# Altium footprint library SamacSys.PcbLib: 2 footprints
Each footprint in its own frame and in the unit in brackets; x right, y up, seen from the top. Pads: shape width x height; smd on the part's side, far side on the other; paste and mask are expansions set on the pad; w line width, h text height; cw(c..) or ccw(c..) is an arc to the next point about the centre after c.
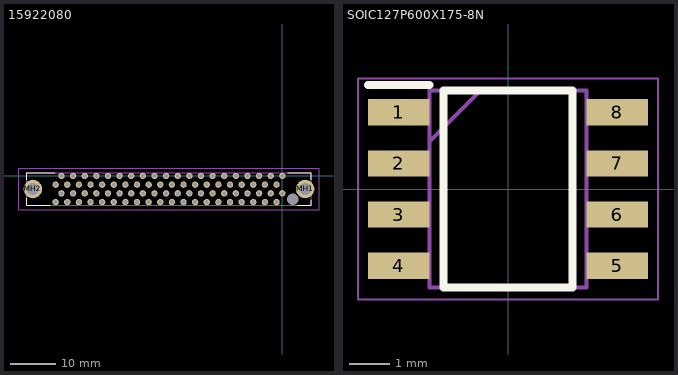
[diagram p0: the footprints below, top view; thin cyan lines are the x and y axes]

## 15922080 [mm]
pads (83):
  round 1.381 hole 0.85: 1(0,0) 2(0,-3.81) 3(-1.27,-1.905) 4(-1.27,-5.715) 5(-2.54,0) 6(-2.54,-3.81) 7(-3.81,-1.905) 8(-3.81,-5.715) 9(-5.08,0) 10(-5.08,-3.81) 11(-6.35,-1.905) 12(-6.35,-5.715) 13(-7.62,0) 14(-7.62,-3.81) 15(-8.89,-1.905) 16(-8.89,-5.715) 17(-10.16,0) 18(-10.16,-3.81) 19(-11.43,-1.905) 20(-11.43,-5.715) 21(-12.7,0) 22(-12.7,-3.81) 23(-13.97,-1.905) 24(-13.97,-5.715) 25(-15.24,0) 26(-15.24,-3.81) 27(-16.51,-1.905) 28(-16.51,-5.715) 29(-17.78,0) 30(-17.78,-3.81) 31(-19.05,-1.905) 32(-19.05,-5.715) 33(-20.32,0) 34(-20.32,-3.81) 35(-21.59,-1.905) 36(-21.59,-5.715) 37(-22.86,0) 38(-22.86,-3.81) 39(-24.13,-1.905) 40(-24.13,-5.715) 41(-25.4,0) 42(-25.4,-3.81) 43(-26.67,-1.905) 44(-26.67,-5.715) 45(-27.94,0) 46(-27.94,-3.81) 47(-29.21,-1.905) 48(-29.21,-5.715) 49(-30.48,0) 50(-30.48,-3.81) 51(-31.75,-1.905) 52(-31.75,-5.715) 53(-33.02,0) 54(-33.02,-3.81) 55(-34.29,-1.905) 56(-34.29,-5.715) 57(-35.56,0) 58(-35.56,-3.81) 59(-36.83,-1.905) 60(-36.83,-5.715) 61(-38.1,0) 62(-38.1,-3.81) 63(-39.37,-1.905) 64(-39.37,-5.715) 65(-40.64,0) 66(-40.64,-3.81) 67(-41.91,-1.905) 68(-41.91,-5.715) 69(-43.18,0) 70(-43.18,-3.81) 71(-44.45,-1.905) 72(-44.45,-5.715) 73(-45.72,0) 74(-45.72,-3.81) 75(-46.99,-1.905) 76(-46.99,-5.715) 77(-48.26,0) 78(-48.26,-3.81) 79(-49.53,-1.905) 80(-49.53,-5.715)
  round 4.05 hole 2.7: MH1(4.985,-2.857) MH2(-54.515,-2.857)
  round 1.27 hole 2.54 unplated: MH3(2.285,-5.057)
Top Overlay:
  lines w0.1: -55.865,-4.857 -55.865,-6.357 -50.765,-6.357 ; -55.865,-0.857 -55.865,0.642 -49.765,0.642 ; 1.235,0.642 6.335,0.642 6.335,-0.857 ; 3.235,-6.357 6.335,-6.357 6.335,-5.357
Mechanical 13:
  lines w0.2: -55.865,-6.357 6.335,-6.357 6.335,0.642 -55.865,0.642 -55.865,-6.357
Mechanical 15:
  lines w0.1: -57.54,-7.406 8.01,-7.406 8.01,1.691 -57.54,1.691 -57.54,-7.406
3D body "15-92-2080.stp": height 9.19, standoff -3.41, extent -55.88,-6.35 6.325,0.66

## SOIC127P600X175-8N [mm]
pads (8):
  rect 1.525x0.65 smd: 1(-2.712,1.905) 2(-2.712,0.635) 3(-2.712,-0.635) 4(-2.712,-1.905) 5(2.712,-1.905) 6(2.712,-0.635) 7(2.712,0.635) 8(2.712,1.905)
Top Overlay:
  lines w0.2: -3.475,2.58 -1.95,2.58 ; -1.6,-2.45 1.6,-2.45 1.6,2.45 -1.6,2.45 -1.6,-2.45
Mechanical 13:
  lines w0.1: -1.95,1.18 -0.68,2.45 ; -1.95,-2.45 1.95,-2.45 1.95,2.45 -1.95,2.45 -1.95,-2.45
Mechanical 15:
  lines w0.05: -3.725,-2.75 3.725,-2.75 3.725,2.75 -3.725,2.75 -3.725,-2.75
3D body "NE555DR.stp": height 1.75, standoff 0, extent -3,-2.45 3,2.45